# Altium footprint library PcbLib1.PcbLib: 30 footprints (part 2 of 2)
Each footprint in its own frame and in the unit in brackets; x right, y up, seen from the top. Pads: shape width x height; smd on the part's side, far side on the other; paste and mask are expansions set on the pad; w line width, h text height; cw(c..) or ccw(c..) is an arc to the next point about the centre after c.
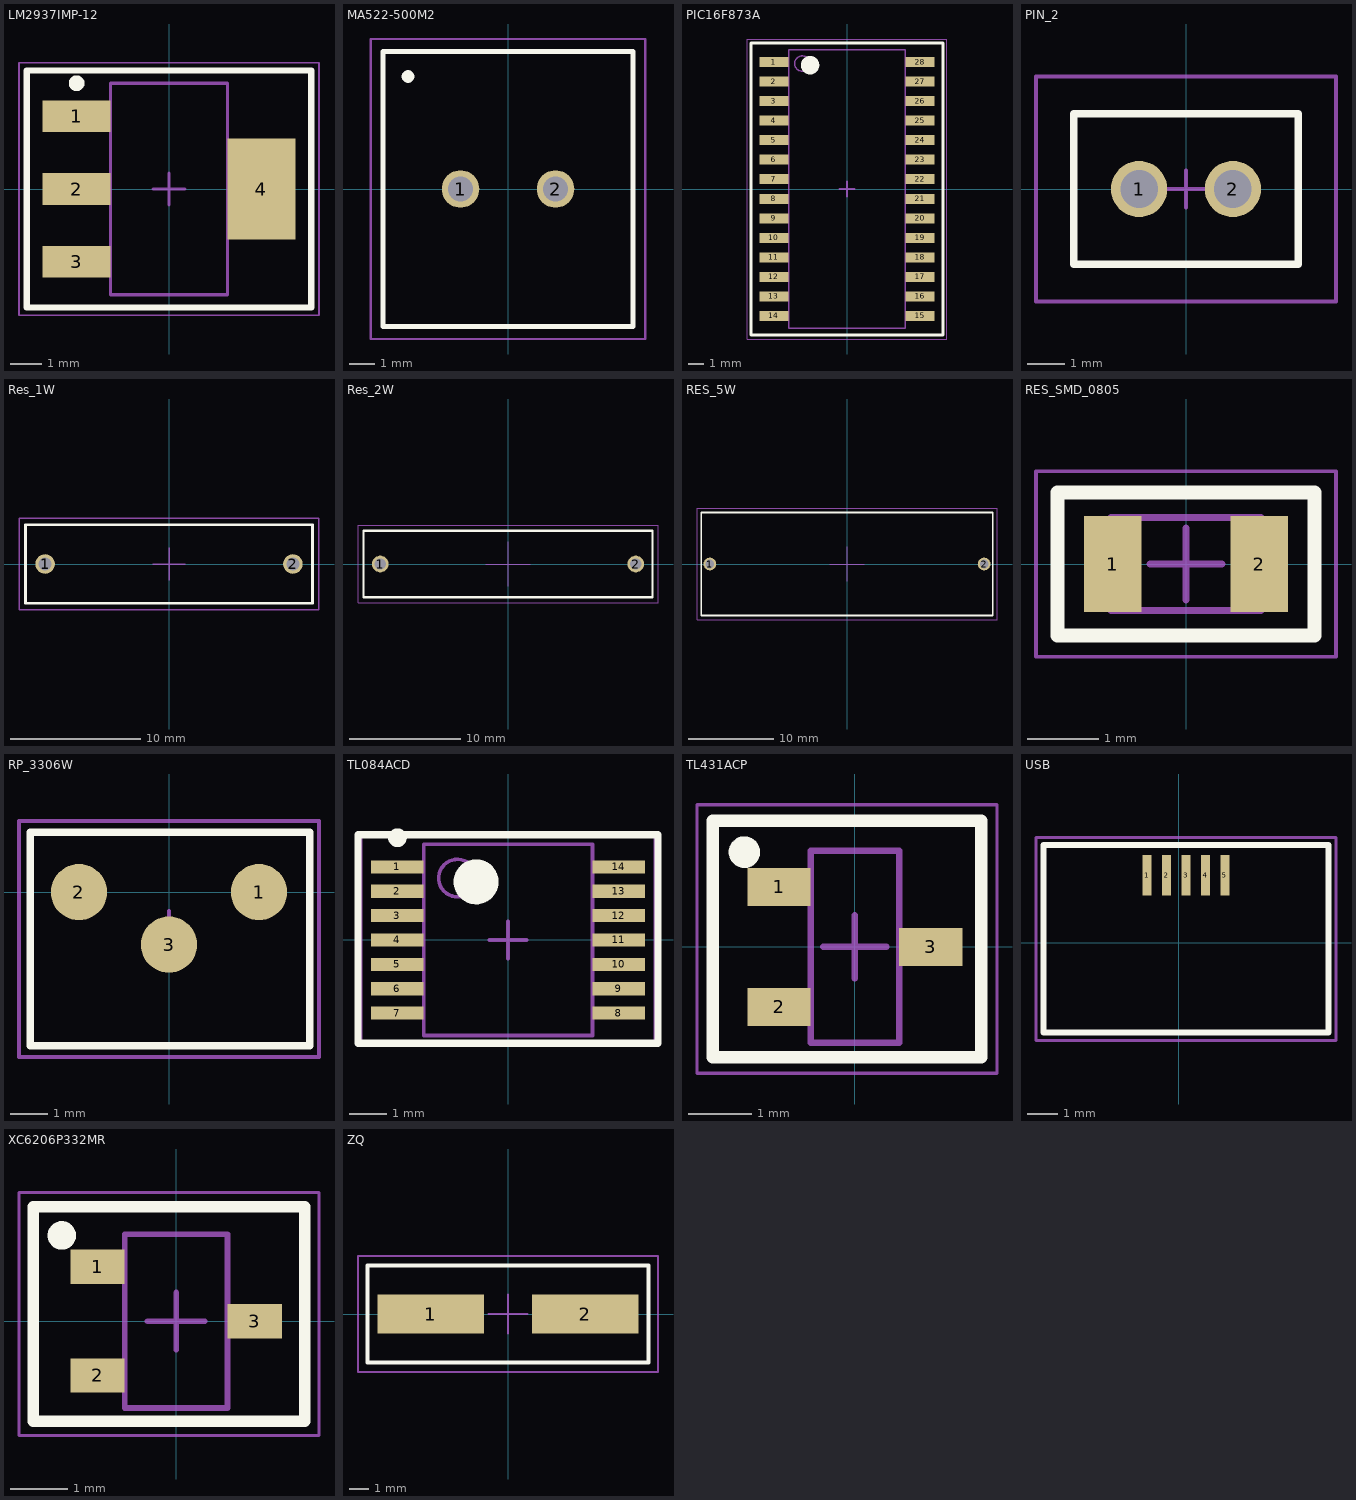
[diagram p1: the footprints below, top view; thin cyan lines are the x and y axes]

## LM2937IMP-12 [mm] "SOT223, 4-Leads, Body 6,50x7,00mm (avg), Pitch 2,30mm, IPC Medium Density"
height 1.8
pads (4):
  rect 2.15x1 smd: 1(-2.925,2.3) 2(-2.925,0) 3(-2.925,-2.3)
  rect 2.15x3.2 smd: 4(2.925,0)
Top Overlay:
  circle w0.25: c-2.925,3.35 r0.125
  lines w0.2: -4.5,-3.75 -4.5,3.75 4.5,3.75 4.5,-3.75 -4.5,-3.75
3D model:
  lines w0.1: -1.85,-3.35 -1.85,3.35 1.85,3.35 1.85,-3.35 -1.85,-3.35
Border:
  lines w0.05: -4.75,-4 -4.75,4 4.75,4 4.75,-4 -4.75,-4
  lines w0.1: -0.5,0 0.5,0 ; 0,-0.5 0,0.5
3D body "LM2937IMP-12.step": height 1.8, standoff 0, extent -3.5,-3.35 3.5,3.35

## MA522-500M2 [mm]
pads (2):
  round 1.5 hole 1: 1(-1.9,0) 2(1.9,0)
Top Overlay:
  circle w0.254: c-4,4.5 r0.125
  lines w0.2: -5,-5.5 5,-5.5 5,5.5 -5,5.5 -5,-5.5
Border:
  lines w0.1: -5.5,-6 5.5,-6 5.5,6 -5.5,6 -5.5,-6
3D body "KLS2_V2.STEP": height 10, standoff 0, extent -4.5,-5 4.5,5

## PIC16F873A [mm] "SOP, 28-Leads, Body 17,86x7,46mm, Pitch 1,27mm, IPC Medium Density"
height 2.5
pads (28):
  rect 1.9x0.65 smd: 1(-4.75,8.255) 2(-4.75,6.985) 3(-4.75,5.715) 4(-4.75,4.445) 5(-4.75,3.175) 6(-4.75,1.905) 7(-4.75,0.635) 8(-4.75,-0.635) 9(-4.75,-1.905) 10(-4.75,-3.175) 11(-4.75,-4.445) 12(-4.75,-5.715) 13(-4.75,-6.985) 14(-4.75,-8.255) 15(4.75,-8.255) 16(4.75,-6.985) 17(4.75,-5.715) 18(4.75,-4.445) 19(4.75,-3.175) 20(4.75,-1.905) 21(4.75,-0.635) 22(4.75,0.635) 23(4.75,1.905) 24(4.75,3.175) 25(4.75,4.445) 26(4.75,5.715) 27(4.75,6.985) 28(4.75,8.255)
Top Overlay:
  circle w0.6: c-2.4,8.05 r0.3
  lines w0.2: -6.25,-9.5 6.25,-9.5 6.25,9.5 -6.25,9.5 -6.25,-9.5
3D model:
  circle w0.1: c-2.9,8.15 r0.5
  lines w0.1: -3.8,-9.05 3.8,-9.05 3.8,9.05 -3.8,9.05 -3.8,-9.05
Border:
  lines w0.05: -6.5,-9.75 6.5,-9.75 6.5,9.75 -6.5,9.75 -6.5,-9.75
  lines w0.1: -0.5,0 0.5,0 ; 0,-0.5 0,0.5
3D body "PIC16F873A.step": height 2.5, standoff 0, extent -5.15,-9.05 5.15,9.05

## PIN_2 [mm]
pads (2):
  round 1.5 hole 1: 1(-1.25,0) 2(1.25,0)
Top Overlay:
  lines w0.2: -3,-2 3,-2 3,2 -3,2 -3,-2
Border:
  lines w0.1: -0.5,0 0.5,0 ; 0,-0.5 0,0.5 ; -4,-3 -4,3 4,3 4,-3 -4,-3
3D body "PIN_2.STEP": height 7.5, standoff -2.5, extent -2.5,-1.25 2.5,1.25

## Res_1W [mm]
pads (2):
  round 1.5 hole 1: 1(-9.5,0) 2(9.5,0)
Top Overlay:
  lines w0.2: -11,-3 -11,3 11,3 11,-3 -11,-3
Border:
  lines w0.1: -1.25,0 1.25,0 ; 0,-1.25 0,1.25 ; -11.5,-3.5 -11.5,3.5 11.5,3.5 11.5,-3.5 -11.5,-3.5
3D body "Res_1W.STEP": height 4.75, standoff -1.5, extent -9.9,-2.25 9.9,2.25

## Res_2W [mm]
pads (2):
  round 1.5 hole 1: 1(-11.5,0) 2(11.5,0)
Top Overlay:
  lines w0.2: -13,-3 -13,3 13,3 13,-3 -13,-3
Border:
  lines w0.1: -2,0 2,0 ; 0,-2 0,2 ; -13.5,-3.5 -13.5,3.5 13.5,3.5 13.5,-3.5 -13.5,-3.5
3D body "Res_2W.STEP": height 5, standoff -1.5, extent -11.9,-2.5 11.9,2.5

## RES_5W [mm]
pads (2):
  round 1.5 hole 1: 1(-16,0) 2(16,0)
Top Overlay:
  lines w0.2: -17,-6 -17,6 17,6 17,-6 -17,-6
Border:
  lines w0.1: -2,0 2,0 ; 0,-2 0,2 ; -17.5,-6.5 -17.5,6.5 17.5,6.5 17.5,-6.5 -17.5,-6.5
3D body "Res_5W.STEP": height 9.2, standoff -1.3, extent -16.35,-5 16.35,5

## RES_SMD_0805 [mm]
height 0.5
pads (2):
  rect 0.8x1.35 smd: 1(-1.025,0) 2(1.025,0)
Top Overlay:
  lines w0.2: -1.8,-1 1.8,-1 1.8,1 -1.8,1 -1.8,-1
3D model:
  lines w0.1: -1.05,-0.65 1.05,-0.65 1.05,0.65 -1.05,0.65 -1.05,-0.65
Border:
  lines w0.05: -2.1,-1.3 2.1,-1.3 2.1,1.3 -2.1,1.3 -2.1,-1.3
  lines w0.1: -0.5,0 0.5,0 ; 0,-0.5 0,0.5
3D body "RES_SMD_0805.step": height 0.5, standoff 0, extent -1.05,-0.65 1.05,0.65

## RP_3306W [mm]
pads (3):
  round 1.5 smd: 1(2.4,0) 2(-2.4,0) 3(0,-1.4)
Top Overlay:
  lines w0.2: -3.7,-4.1 -3.7,1.6 3.75,1.6 3.75,-4.1 -3.7,-4.1
Border:
  lines w0.1: -0.5,-1 0.5,-1 ; 0,-1.5 0,-0.5 ; -4,-4.4 -4,1.9 4,1.9 4,-4.4 -4,-4.4
3D body "PR_V2.STEP": height 9.2, standoff 0.05, extent -3.3,-3.95 3.3,1.35

## TL084ACD [mm]
height 1.2
pads (14):
  rect 1.4x0.35 smd: 1(-2.95,1.95) 2(-2.95,1.3) 3(-2.95,0.65) 4(-2.95,0) 5(-2.95,-0.65) 6(-2.95,-1.3) 7(-2.95,-1.95) 8(2.95,-1.95) 9(2.95,-1.3) 10(2.95,-0.65) 11(2.95,0) 12(2.95,0.65) 13(2.95,1.3) 14(2.95,1.95)
Top Overlay:
  circle w0.25: c-2.95,2.725 r0.125
  circle w0.6: c-0.85,1.55 r0.3
  lines w0.2: -4,-2.75 -4,2.8 4,2.8 4,-2.75 -4,-2.75
3D model:
  circle w0.1: c-1.35,1.65 r0.5
  lines w0.1: -2.25,-2.55 -2.25,2.55 2.25,2.55 2.25,-2.55 -2.25,-2.55
Border:
  lines w0.05: -3.9,-2.8 -3.9,2.8 3.9,2.8 3.9,-2.8 -3.9,-2.8
  lines w0.1: -0.5,0 0.5,0 ; 0,-0.5 0,0.5
3D body "TL084ACD_2.step": height 1.2, standoff 0, extent -3.2,-2.55 3.2,2.55

## TL431ACP [mm]
height 0.95
pads (3):
  rect 1x0.6 smd: 1(-1.2,0.95) 2(-1.2,-0.95) 3(1.2,0)
Top Overlay:
  circle w0.25: c-1.75,1.5 r0.125
  lines w0.2: -2.25,-1.75 2,-1.75 2,2 -2.25,2 -2.25,-1.75
3D model:
  lines w0.1: -0.7,-1.52 0.7,-1.52 0.7,1.52 -0.7,1.52 -0.7,-1.52
Border:
  lines w0.05: -2.5,-2 2.25,-2 2.25,2.25 -2.5,2.25 -2.5,-2
  lines w0.1: -0.5,0 0.5,0 ; 0,-0.5 0,0.5
3D body "TL431ACP_2.step": height 0.95, standoff 0, extent -1.3,-1.52 1.3,1.52

## USB [mm]
pads (5):
  rect 0.3x1.35 smd: 1(-1.05,2.25) 2(-0.4,2.25) 3(0.25,2.25) 4(0.9,2.25) 5(1.55,2.25)
Top Overlay:
  lines w0.2: -4.5,-3 -4.5,3.25 5,3.25 5,-3 -4.5,-3
Border:
  lines w0.1: -4.75,-3.25 -4.75,3.5 5.25,3.5 5.25,-3.25 -4.75,-3.25
3D body "MicroUSB.STEP": height 2.83, standoff -0.23, extent -4.15,-2.8 4.65,2.8

## XC6206P332MR [mm]
height 1.1
pads (3):
  rect 0.95x0.6 smd: 1(-1.375,0.95) 2(-1.375,-0.95) 3(1.375,0)
Top Overlay:
  circle w0.25: c-2,1.5 r0.125
  lines w0.2: -2.5,-1.75 -2.5,2 2.25,2 2.25,-1.75 -2.5,-1.75
3D model:
  lines w0.1: -0.9,-1.52 0.9,-1.52 0.9,1.52 -0.9,1.52 -0.9,-1.52
Border:
  lines w0.05: -2.75,-2 2.5,-2 2.5,2.25 -2.75,2.25 -2.75,-2
  lines w0.1: -0.5,0 0.5,0 ; 0,-0.5 0,0.5
3D body "XC6206P332MR_2.step": height 1.1, standoff 0.01, extent -1.393,-1.52 1.393,1.52

## ZQ [mm]
pads (2):
  rect 5.5x2 smd: 1(-4,0) 2(4,0)
Top Overlay:
  lines w0.2: -7.25,-2.5 7.25,-2.5 7.25,2.5 -7.25,2.5 -7.25,-2.5
Border:
  lines w0.1: -1,0 1,0 ; 0,-1 0,1 ; -7.75,-3 -7.75,3 7.75,3 7.75,-3 -7.75,-3
3D body "Resonator.STEP": height 5.4, standoff 0, extent -6.15,-2.25 6.15,2.25